# Altium footprint library SM_SOT-323.PcbLib: 1 footprints
Each footprint in its own frame and in the unit in brackets; x right, y up, seen from the top. Pads: shape width x height; smd on the part's side, far side on the other; paste and mask are expansions set on the pad; w line width, h text height; cw(c..) or ccw(c..) is an arc to the next point about the centre after c.
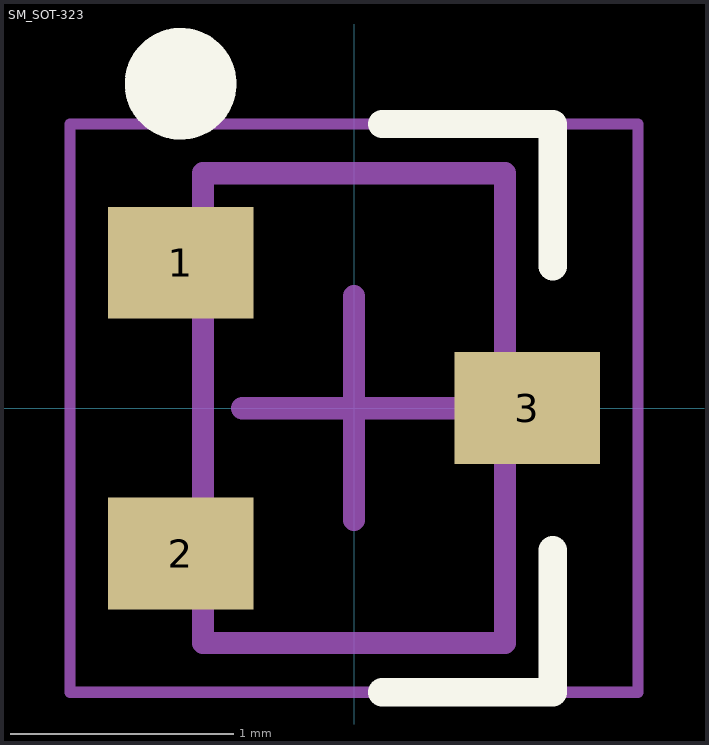
[diagram p0: the footprint, top view; thin cyan lines are the x and y axes]

## SM_SOT-323 [mm] "SOT323, 3-Leads, Body 1.35x2.1mm, Pitch 0.65mm"
pads (3):
  rect 0.65x0.5 smd: 1(-0.775,0.65) 2(-0.775,-0.65) 3(0.775,0)
Top Overlay:
  circle w0.25: c-0.775,1.45 r0.125
  lines w0.127: 0.127,-1.27 0.889,-1.27 0.889,-0.635 ; 0.127,1.27 0.889,1.27 0.889,0.635
Mechanical 13:
  lines w0.1: -0.675,-1.05 0.675,-1.05 0.675,1.05 -0.675,1.05 -0.675,-1.05
Mechanical 15:
  lines w0.05: -1.27,-1.27 1.27,-1.27 1.27,1.27 -1.27,1.27 -1.27,-1.27
  lines w0.1: -0.5,0 0.5,0 ; 0,-0.5 0,0.5
3D body: height 1, standoff 0, extent -0.675,-1.05 0.675,1.05